# EAGLE library part OSC-1 (library CC-FlexiMIDI-V1R1-03.09.2009)
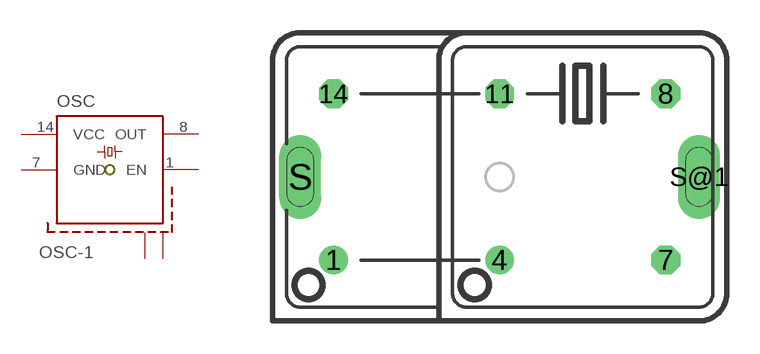
[diagram p2: symbol with the pads of OSC-TOP; footprint OSC-TOP]

Designator prefix OSC

## OSC-1  [OSC-TOP]
1  EN  in
4  EN  in
7  GND  pwr
8  OUT  out
11  VCC  pwr
14  VCC  pwr
S  S  pas
S@1  S  pas

## Footprint OSC-TOP (pad centres in mm)
drill 0.813 round: 1 -7.62,-3.81; 4 0,-3.81
drill 0.813 octagon: 7 7.62,-3.81; 8 7.62,3.81; 11 0,3.81; 14 -7.62,3.81
drill 1.2 pad 1.93 long: S -9.144,0; S@1 9.144,0